# Altium footprint library Con Mod Jack PCB.PcbLib: 213 footprints (part 12 of 14)
Each footprint in its own frame and in the unit in brackets; x right, y up, seen from the top. Pads: shape width x height; smd on the part's side, far side on the other; paste and mask are expansions set on the pad; w line width, h text height; cw(c..) or ccw(c..) is an arc to the next point about the centre after c.
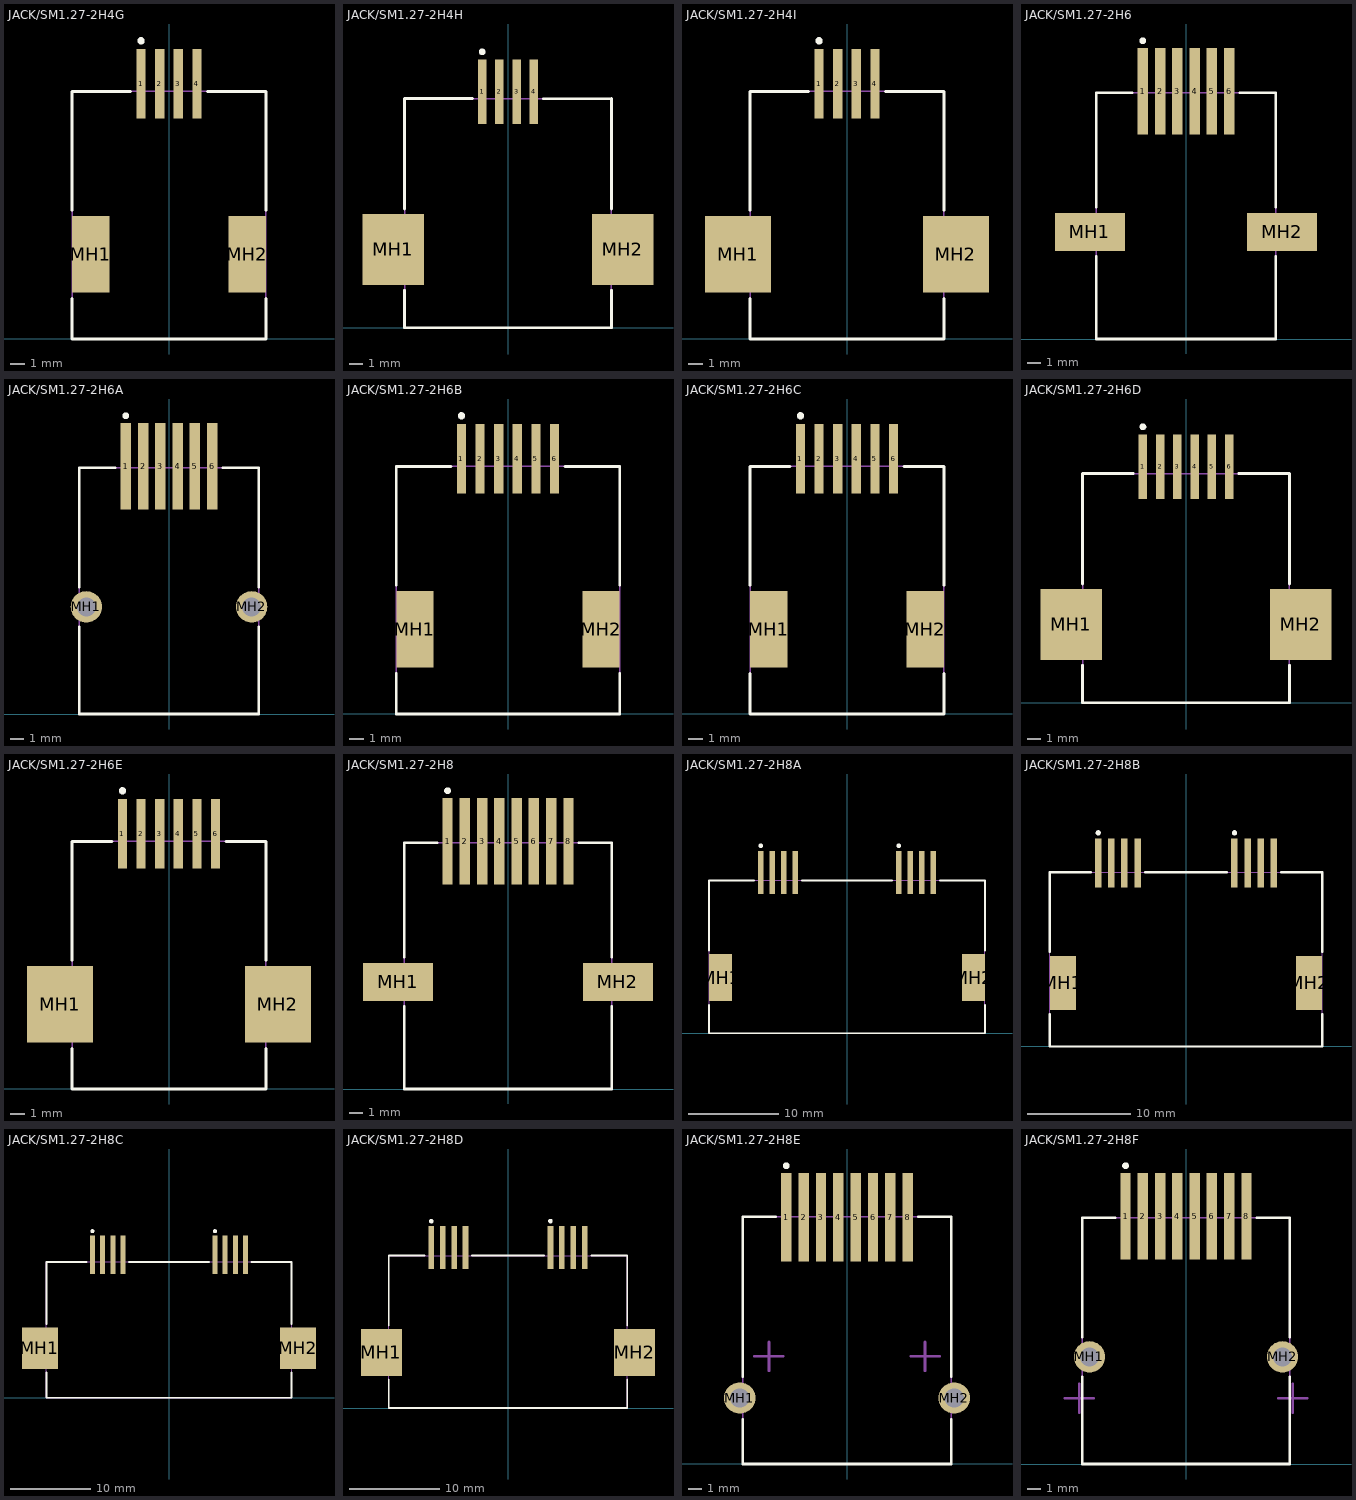
[diagram p11: the footprints below, top view; thin cyan lines are the x and y axes]

## JACK/SM1.27-2H4G [mil] "Connector; PCB Jack, SM; 1-Port, 6 Positions, 4 Loaded; Unshielded without Lightpipes; Right Angle"
height 459.06
pads (6):
  rect 25x187 smd: 1(-75,685.5) 2(-25,685.5) 3(25,685.5) 4(75,685.5)
  rect 100x205 smd: MH1(-210,227.5) MH2(210,227.5)
Top Overlay:
  circle w9.84: c-75,800.65 r4.92
  lines w7.87: -260,109.25 -260,0 260,0 260,109.25 ; -260,345.75 -260,665 -103.25,665 ; 103.25,665 260,665 260,345.75
Mechanical 13:
  lines w3.94: -260,0 -260,665 260,665 260,0 -260,0
3D body: height 459.06, standoff 0, extent -260,0 260,665

## JACK/SM1.27-2H4H [mil] "Connector; PCB Jack, SM; 1-Port, 8 Positions, 4 Loaded; Unshielded without Lightpipes; Right Angle"
height 459.06
pads (6):
  rect 25x187 smd: 1(-75,685.5) 2(-25,685.5) 3(25,685.5) 4(75,685.5)
  rect 178x205 smd: MH1(-332.5,227.5) MH2(332.5,227.5)
Top Overlay:
  circle w9.84: c-75,800.65 r4.92
  lines w7.87: -300,109.25 -300,0 300,0 300,109.25 ; -300,345 -300,665 -103.25,665 ; 103.25,664.25 300,665 300,345
Mechanical 13:
  lines w3.94: -300,0 -300,665 300,665 300,0 -300,0
3D body: height 459.06, standoff 0, extent -300,0 300,665

## JACK/SM1.27-2H4I [mil] "Connector; PCB Jack, SM; 1-Port, 6 Positions, 4 Loaded; Unshielded without Lightpipes; Right Angle"
height 459.06
pads (6):
  rect 25x187 smd: 1(-75,685.5) 2(-25,685.5) 3(25,685.5) 4(75,685.5)
  rect 178x205 smd: MH1(-292.5,227.5) MH2(292.5,227.5)
Top Overlay:
  circle w9.84: c-75,800.65 r4.92
  lines w7.87: -260,109.25 -260,0 260,0 260,109.25 ; -260,345.75 -260,665 -103.25,665 ; 103.25,665 260,665 260,345.75
Mechanical 13:
  lines w3.94: -260,0 -260,665 260,665 260,0 -260,0
3D body: height 459.06, standoff 0, extent -260,0 260,665

## JACK/SM1.27-2H6 [mm] "Connector; PCB Jack, SM; 1-Port, 6 Positions, 6 Loaded; Unshielded without Lightpipes; Right Angle"
height 11.75
pads (8):
  rect 0.76x6.35 smd: 1(-3.175,18.205) 2(-1.905,18.205) 3(-0.635,18.205) 4(0.635,18.205) 5(1.905,18.205) 6(3.175,18.205)
  rect 5.15x2.8 smd: MH1(-7.06,7.88) MH2(7.06,7.88)
Top Overlay:
  circle w0.25: c-3.175,21.93 r0.125
  lines w0.2: -6.605,6.08 -6.605,0 6.605,0 6.605,6.08 ; -6.605,9.68 -6.605,18.1 -3.955,18.1 ; 3.955,18.1 6.605,18.1 6.605,9.68
Mechanical 13:
  lines w0.1: -6.605,0 -6.605,18.1 6.605,18.1 6.605,0 -6.605,0
3D body: height 11.75, standoff 0, extent -6.605,0 6.605,18.1

## JACK/SM1.27-2H6A [mm] "Connector; PCB Jack, SM; 1-Port, 6 Positions, 6 Loaded; Unshielded without Lightpipes; Right Angle"
height 11.75
pads (8):
  rect 0.76x6.35 smd: 1(-3.175,18.205) 2(-1.905,18.205) 3(-0.635,18.205) 4(0.635,18.205) 5(1.905,18.205) 6(3.175,18.205)
  round 2.3 hole 1.4: MH1(-6.08,7.88) MH2(6.08,7.88)
Top Overlay:
  circle w0.25: c-3.175,21.93 r0.125
  lines w0.2: -6.605,6.422 -6.605,0 6.605,0 6.605,6.422 ; -6.605,9.338 -6.605,18.1 -3.955,18.1 ; 3.955,18.1 6.605,18.1 6.605,9.338
Mechanical 13:
  lines w0.1: -6.605,0 -6.605,18.1 6.605,18.1 6.605,0 -6.605,0
3D body: height 11.75, standoff 0, extent -6.605,0 6.605,18.1

## JACK/SM1.27-2H6B [mil] "Connector; PCB Jack, SM; 1-Port, 8 Positions, 6 Loaded; Unshielded without Lightpipes; Right Angle"
height 459.06
pads (8):
  rect 25x187 smd: 1(-125,685.5) 2(-75,685.5) 3(-25,685.5) 4(25,685.5) 5(75,685.5) 6(125,685.5)
  rect 100x205 smd: MH1(-250,227.5) MH2(250,227.5)
Top Overlay:
  circle w9.84: c-125,800.65 r4.92
  lines w7.87: -300,109.25 -300,0 300,0 300,109.25 ; -300,345.75 -300,665 -153.25,665 ; 153.25,665 300,665 300,345.75
Mechanical 13:
  lines w3.94: -300,0 -300,665 300,665 300,0 -300,0
3D body: height 459.06, standoff 0, extent -300,0 300,665

## JACK/SM1.27-2H6C [mil] "Connector; PCB Jack, SM; 1-Port, 6 Positions, 6 Loaded; Unshielded without Lightpipes; Right Angle"
height 459.06
pads (8):
  rect 25x187 smd: 1(-125,685.5) 2(-75,685.5) 3(-25,685.5) 4(25,685.5) 5(75,685.5) 6(125,685.5)
  rect 100x205 smd: MH1(-210,227.5) MH2(210,227.5)
Top Overlay:
  circle w9.84: c-125,800.65 r4.92
  lines w7.87: -260,109.25 -260,0 260,0 260,109.25 ; -260,345.75 -260,665 -153.25,665 ; 153.25,665 260,665 260,345.75
Mechanical 13:
  lines w3.94: -260,0 -260,665 260,665 260,0 -260,0
3D body: height 459.06, standoff 0, extent -260,0 260,665

## JACK/SM1.27-2H6D [mil] "Connector; PCB Jack, SM; 1-Port, 8 Positions, 6 Loaded; Unshielded without Lightpipes; Right Angle"
height 459.06
pads (8):
  rect 25x187 smd: 1(-125,685.5) 2(-75,685.5) 3(-25,685.5) 4(25,685.5) 5(75,685.5) 6(125,685.5)
  rect 178x205 smd: MH1(-332.5,227.5) MH2(332.5,227.5)
Top Overlay:
  circle w9.84: c-125,800.65 r4.92
  lines w7.87: -300,109.25 -300,0 300,0 300,109.25 ; -300,345 -300,665 -153.25,665 ; 153.25,665 300,665 300,345
Mechanical 13:
  lines w3.94: -300,0 -300,665 300,665 300,0 -300,0
3D body: height 459.06, standoff 0, extent -300,0 300,665

## JACK/SM1.27-2H6E [mil] "Connector; PCB Jack, SM; 1-Port, 6 Positions, 6 Loaded; Unshielded without Lightpipes; Right Angle"
height 459.06
pads (8):
  rect 25x187 smd: 1(-125,685.5) 2(-75,685.5) 3(-25,685.5) 4(25,685.5) 5(75,685.5) 6(125,685.5)
  rect 178x205 smd: MH1(-292.5,227.5) MH2(292.5,227.5)
Top Overlay:
  circle w9.84: c-125,800.65 r4.92
  lines w7.87: -260,109.25 -260,0 260,0 260,109.25 ; -260,345.75 -260,665 -153.25,665 ; 153.25,665 260,665 260,345.75
Mechanical 13:
  lines w3.94: -260,0 -260,665 260,665 260,0 -260,0
3D body: height 459.06, standoff 0, extent -260,0 260,665

## JACK/SM1.27-2H8 [mm] "Connector; PCB Jack, SM; 1-Port, 8 Positions, 8 Loaded; Unshielded without Lightpipes; Right Angle"
height 11.75
pads (10):
  rect 0.76x6.35 smd: 1(-4.445,18.205) 2(-3.175,18.205) 3(-1.905,18.205) 4(-0.635,18.205) 5(0.635,18.205) 6(1.905,18.205) 7(3.175,18.205) 8(4.445,18.205)
  rect 5.15x2.8 smd: MH1(-8.075,7.88) MH2(8.075,7.88)
Top Overlay:
  circle w0.25: c-4.445,21.93 r0.125
  lines w0.2: -7.62,6.08 -7.62,0 7.62,0 7.62,6.08 ; -7.62,9.68 -7.62,18.1 -5.225,18.1 ; 5.225,18.1 7.62,18.1 7.62,9.68
Mechanical 13:
  lines w0.1: -7.62,0 -7.62,18.1 7.62,18.1 7.62,0 -7.62,0
3D body: height 11.75, standoff 0, extent -7.62,0 7.62,18.1

## JACK/SM1.27-2H8A [mil] "Connector; PCB Jack, SM; 2-Port, 8 Positions, 4 Loaded; Unshielded without Lightpipes; Right Angle"
height 464.57
pads (10):
  rect 25x187 smd: A1(-375,700.5) A2(-325,700.5) A3(-275,700.5) A4(-225,700.5) B1(225,700.5) B2(275,700.5) B3(325,700.5) B4(375,700.5)
  rect 100x205 smd: MH1(-550,242.5) MH2(550,242.5)
Top Overlay:
  circle w9.84: c-375,815.65 r4.92
  circle w9.84: c225,815.65 r4.92
  lines w7.87: -600,124.25 -600,0 600,0 600,124.25 ; -600,360.75 -600,665 -403.25,665 ; -196.75,665 196.75,665 ; 403.25,665 600,665 600,360.75
Mechanical 13:
  lines w3.94: -600,0 -600,665 600,665 600,0 -600,0
3D body: height 464.57, standoff 0, extent -600,0 600,665

## JACK/SM1.27-2H8B [mil] "Connector; PCB Jack, SM; 2-Port, 6 Positions, 4 Loaded; Unshielded without Lightpipes; Right Angle"
height 464.57
pads (10):
  rect 25x187 smd: A1(-335,700.5) A2(-285,700.5) A3(-235,700.5) A4(-185,700.5) B1(185,700.5) B2(235,700.5) B3(285,700.5) B4(335,700.5)
  rect 100x205 smd: MH1(-470,242.5) MH2(470,242.5)
Top Overlay:
  circle w9.84: c-335,815.65 r4.92
  circle w9.84: c185,815.65 r4.92
  lines w7.87: -520,124.25 -520,0 520,0 520,124.25 ; -520,360.75 -520,665 -363.25,665 ; -156.75,665 156.75,665 ; 363.25,665 520,665 520,360.75
Mechanical 13:
  lines w3.94: -520,0 -520,665 520,665 520,0 -520,0
3D body: height 464.57, standoff 0, extent -520,0 520,665

## JACK/SM1.27-2H8C [mil] "Connector; PCB Jack, SM; 2-Port, 8 Positions, 4 Loaded; Unshielded without Lightpipes; Right Angle"
height 464.57
pads (10):
  rect 25x187 smd: A1(-375,700.5) A2(-325,700.5) A3(-275,700.5) A4(-225,700.5) B1(225,700.5) B2(275,700.5) B3(325,700.5) B4(375,700.5)
  rect 178x205 smd: MH1(-632,242.5) MH2(632,242.5)
Top Overlay:
  circle w9.84: c-375,815.65 r4.92
  circle w9.84: c225,815.65 r4.92
  lines w7.87: -600,124.25 -600,0 600,0 600,124.25 ; -600,360.75 -600,665 -403.25,665 ; -196.75,665 196.75,665 ; 403.25,665 600,665 600,360.75
Mechanical 13:
  lines w3.94: -600,0 -600,665 600,665 600,0 -600,0
3D body: height 464.57, standoff 0, extent -600,0 600,665

## JACK/SM1.27-2H8D [mil] "Connector; PCB Jack, SM; 2-Port, 6 Positions, 4 Loaded; Unshielded without Lightpipes; Right Angle"
height 464.57
pads (10):
  rect 25x187 smd: A1(-335,700.5) A2(-285,700.5) A3(-235,700.5) A4(-185,700.5) B1(185,700.5) B2(235,700.5) B3(285,700.5) B4(335,700.5)
  rect 178x205 smd: MH1(-552,242.5) MH2(552,242.5)
Top Overlay:
  circle w9.84: c185,815.65 r4.92
  circle w9.84: c-335,815.65 r4.92
  lines w7.87: -520,124.25 -520,0 520,0 520,124.25 ; -520,360.75 -520,665 -363.25,665 ; -156.75,665 156.75,665 ; 363.25,665 520,665 520,360.75
Mechanical 13:
  lines w3.94: -520,0 -520,665 520,665 520,0 -520,0
3D body: height 464.57, standoff 0, extent -520,0 520,665

## JACK/SM1.27-2H8E [mm] "Connector; PCB Jack, SM; 1-Port, 8 Positions, 8 Loaded; Shielded without Lightpipes; Right Angle"
height 11.75
pads (10):
  rect 0.76x6.45 smd: 1(-4.445,18.055) 2(-3.175,18.055) 3(-1.905,18.055) 4(-0.635,18.055) 5(0.635,18.055) 6(1.905,18.055) 7(3.175,18.055) 8(4.445,18.055)
  round 2.3 hole 1.4: MH1(-7.85,4.83) MH2(7.85,4.83)
Top Overlay:
  circle w0.25: c-4.445,21.83 r0.125
  lines w0.2: -7.62,3.28 -7.62,0 7.62,0 7.62,3.28 ; -7.62,6.38 -7.62,18.1 -5.225,18.1 ; 5.225,18.1 7.62,18.1 7.62,6.38
Mechanical 1:
  lines w0.2: -6.765,7.88 -5.715,7.88 ; -5.715,6.83 -5.715,7.88 ; -5.715,8.93 -5.715,7.88 ; -4.665,7.88 -5.715,7.88 ; 4.665,7.88 5.715,7.88 ; 5.715,6.83 5.715,7.88 ; 5.715,8.93 5.715,7.88 ; 6.765,7.88 5.715,7.88
Mechanical 13:
  lines w0.1: -7.62,0 7.62,0 7.62,18.1 -7.62,18.1 -7.62,0
3D body: height 11.75, standoff 0, extent -7.62,0 7.62,18.1

## JACK/SM1.27-2H8F [mm] "Connector; PCB Jack, SM; 1-Port, 8 Positions, 8 Loaded; Unshielded without Lightpipes; Right Angle"
height 11.75
pads (10):
  rect 0.76x6.35 smd: 1(-4.445,18.205) 2(-3.175,18.205) 3(-1.905,18.205) 4(-0.635,18.205) 5(0.635,18.205) 6(1.905,18.205) 7(3.175,18.205) 8(4.445,18.205)
  round 2.3 hole 1.4: MH1(-7.095,7.88) MH2(7.095,7.88)
Top Overlay:
  circle w0.25: c-4.445,21.93 r0.125
  lines w0.2: -7.62,6.422 -7.62,0 7.62,0 7.62,6.422 ; -7.62,9.338 -7.62,18.1 -5.225,18.1 ; 5.225,18.1 7.62,18.1 7.62,9.338
Mechanical 1:
  lines w0.2: -8.9,4.83 -7.85,4.83 ; -7.85,3.78 -7.85,4.83 ; -7.85,5.88 -7.85,4.83 ; -6.8,4.83 -7.85,4.83 ; 6.8,4.83 7.85,4.83 ; 7.85,3.78 7.85,4.83 ; 7.85,5.88 7.85,4.83 ; 8.9,4.83 7.85,4.83
Mechanical 13:
  lines w0.1: -7.62,0 -7.62,18.1 7.62,18.1 7.62,0 -7.62,0
3D body: height 11.75, standoff 0, extent -7.62,0 7.62,18.1